# EAGLE library part MAX14851AEE+ (library MAX14851AEE)
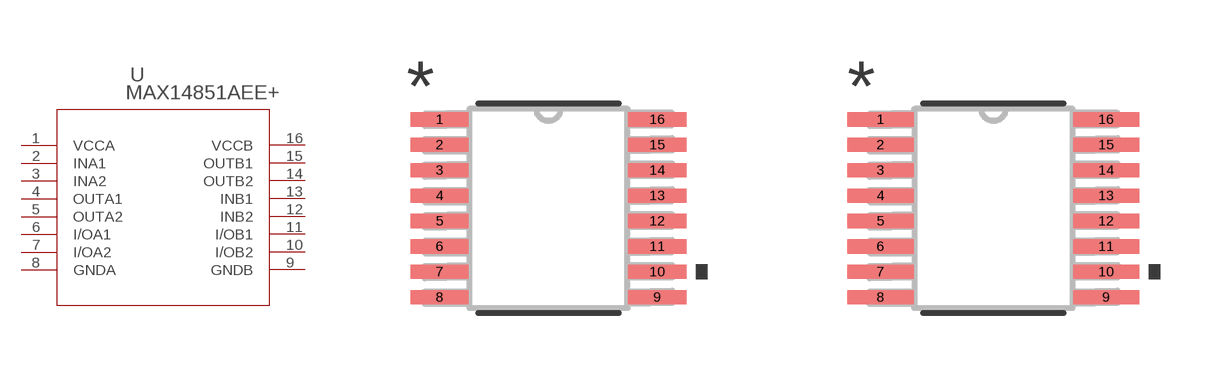
[diagram p0: symbol with the pads of 21-0055H_16_MXM; footprints 21-0055H_16_MXM, 21-0055H_16_MXM-M]

Designator prefix U

## MAX14851AEE+ (COPYRIGHT: Copyright (C) 2022 Ultra Librarian. All rights reserved.; MANUFACTURER_PART_NUMBER: MAX14851AEE+; MFR_NAME: Maxim Integrated Products)  [21-0055H_16_MXM]
1  VCCA  pwr
2  INA1
3  INA2
4  OUTA1  out
5  OUTA2  out
6  I/OA1
7  I/OA2
8  GNDA  pas
9  GNDB  pas
10  I/OB2
11  I/OB1
12  INB2
13  INB1
14  OUTB2  out
15  OUTB1  out
16  VCCB  pwr

## MAX14851AEE+21-0055H_16_MXM-M (COPYRIGHT: Copyright (C) 2022 Ultra Librarian. All rights reserved.; MANUFACTURER_PART_NUMBER: MAX14851AEE+; MFR_NAME: Maxim Integrated Products)  [21-0055H_16_MXM-M]
Pads as for 21-0055H_16_MXM

## MAX14851AEE+21-0055H_16_MXM-L (COPYRIGHT: Copyright (C) 2022 Ultra Librarian. All rights reserved.; MANUFACTURER_PART_NUMBER: MAX14851AEE+; MFR_NAME: Maxim Integrated Products)  [21-0055H_16_MXM-L]
Pads as for 21-0055H_16_MXM

## Footprint 21-0055H_16_MXM (pad centres in mm)
smd 1.455 x 0.355: 1 -2.721,2.223; 2 -2.721,1.587; 3 -2.721,0.953; 4 -2.721,0.318; 5 -2.721,-0.318; 6 -2.721,-0.953; 7 -2.721,-1.587; 8 -2.721,-2.223; 9 2.721,-2.223; 10 2.721,-1.587; 11 2.721,-0.953; 12 2.721,-0.318; 13 2.721,0.318; 14 2.721,0.953; 15 2.721,1.587; 16 2.721,2.223

## Footprint 21-0055H_16_MXM-M (pad centres in mm)
smd 1.655 x 0.355: 1 -2.821,2.223; 2 -2.821,1.587; 3 -2.821,0.953; 4 -2.821,0.318; 5 -2.821,-0.318; 6 -2.821,-0.953; 7 -2.821,-1.587; 8 -2.821,-2.223; 9 2.821,-2.223; 10 2.821,-1.587; 11 2.821,-0.953; 12 2.821,-0.318; 13 2.821,0.318; 14 2.821,0.953; 15 2.821,1.587; 16 2.821,2.223

## Footprint 21-0055H_16_MXM-L (pad centres in mm)
smd 1.255 x 0.305: 1 -2.621,2.223; 2 -2.621,1.587; 3 -2.621,0.953; 4 -2.621,0.318; 5 -2.621,-0.318; 6 -2.621,-0.953; 7 -2.621,-1.587; 8 -2.621,-2.223; 9 2.621,-2.223; 10 2.621,-1.587; 11 2.621,-0.953; 12 2.621,-0.318; 13 2.621,0.318; 14 2.621,0.953; 15 2.621,1.587; 16 2.621,2.223